# EAGLE library part 691411710022B (library Wurth_Connectors_WR-TBL Spring Clamp)
WR-TBL Serie 411B - 5.00 mm Screwless Horizontal Entry - 2.0 mm 2 Wires KIND PROPERTIES Pitch 5 mm MATERIAL PROPERTIES Insulator Material PA66 Insulator Flammability Rating UL94 V-0 Contact Material Brass Contact Plating Tin Wire Guard Material Stainless Steel GENERAL INFORMATION Operating Temperature -40 up to +105 °C Compliance RoHS ELECTRICAL PROPERTIES R cULus 10 A Working Voltage [cULus] 300 V (AC) Withstanding Voltage [cULus] 2000 V (AC) Contact Resistance [cULus] 20 mΩ Mechanical Properties Wire Strip Length 9 up to 10 (mm) Wire Properties Solid Wire Section (AWG) 14 to 20 (AWG) Solid Wire Section (Metric) 2.08 to 0.518 (mm²) Stranded Wire Section (AWG) 14 to 20 (AWG) Stranded Wire Section (Metric) 2.08 to 0.518 (mm²) CERTIFICATION cULus Approval E315414 Packaging Properties Packaging Box <https://www.we-online.com/catalog/media/o33341v209%20Family_WR-TLB_6914117100xxB.jpg> Details see: https://www.we-online.com/catalog/en/TBL_5_00_411B_SCREWLESS_HORIZONTAL_ENTRY_2_0MM2_WIRES_6914117100XXB/ Updated by Ella Wu 2019-12-31 2019(C) Wurth Elektronik
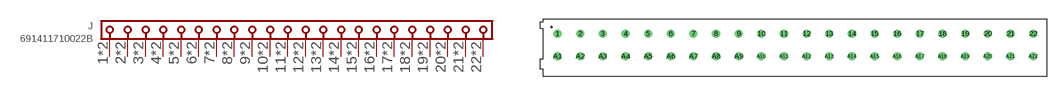
[diagram p48: symbol with the pads of 691411710022B; footprint 691411710022B]

Designator prefix J

## 691411710022B (DATASHEET-URL: https://www.we-online.com/redexpert/spec/691411710022B?ae; IR-UL: 10A; MOUNT: THT; PART-NUMBER: 691411710022B; PINS: 22; PITCH: 5mm; TYPE: Horizontal; VALUE: 691411710022B; WIRE: 14 to 20 (AWG) 2.08 to 0.518 (mm²); WORKING-VOLTAGE-UL: 300V (AC))  [691411710022B]
1  1  pas
2  2  pas
3  3  pas
4  4  pas
5  5  pas
6  6  pas
7  7  pas
8  8  pas
9  9  pas
10  10  pas
11  11  pas
12  12  pas
13  13  pas
14  14  pas
15  15  pas
16  16  pas
17  17  pas
18  18  pas
19  19  pas
20  20  pas
21  21  pas
22  22  pas
A1  1  pas
A2  2  pas
A3  3  pas
A4  4  pas
A5  5  pas
A6  6  pas
A7  7  pas
A8  8  pas
A9  9  pas
A10  10  pas
A11  11  pas
A12  12  pas
A13  13  pas
A14  14  pas
A15  15  pas
A16  16  pas
A17  17  pas
A18  18  pas
A19  19  pas
A20  20  pas
A21  21  pas
A22  22  pas

## Footprint 691411710022B (pad centres in mm)
WR-TBL Serie 411B - 5.00 mm Screwless Horizontal Entry - 2.0 mm 2 Wires Max Height = 15.25mm , Pitch 5mm , 22pins
drill 1.2: 1 -52.5,2.5; 2 -47.5,2.5; 3 -42.5,2.5; 4 -37.5,2.5; 5 -32.5,2.5; 6 -27.5,2.5; 7 -22.5,2.5; 8 -17.5,2.5; 9 -12.5,2.5; 10 -7.5,2.5; 11 -2.5,2.5; 12 2.5,2.5; 13 7.5,2.5; 14 12.5,2.5; 15 17.5,2.5; 16 22.5,2.5; 17 27.5,2.5; 18 32.5,2.5; 19 37.5,2.5; 20 42.5,2.5; 21 47.5,2.5; 22 52.5,2.5; A1 -52.5,-2.5; A2 -47.5,-2.5; A3 -42.5,-2.5; A4 -37.5,-2.5; A5 -32.5,-2.5; A6 -27.5,-2.5; A7 -22.5,-2.5; A8 -17.5,-2.5; A9 -12.5,-2.5; A10 -7.5,-2.5; A11 -2.5,-2.5; A12 2.5,-2.5; A13 7.5,-2.5; A14 12.5,-2.5; A15 17.5,-2.5; A16 22.5,-2.5; A17 27.5,-2.5; A18 32.5,-2.5; A19 37.5,-2.5; A20 42.5,-2.5; A21 47.5,-2.5; A22 52.5,-2.5